# Altium footprint library ST-Link.PcbLib: 11 footprints
Each footprint in its own frame and in the unit in brackets; x right, y up, seen from the top. Pads: shape width x height; smd on the part's side, far side on the other; paste and mask are expansions set on the pad; w line width, h text height; cw(c..) or ccw(c..) is an arc to the next point about the centre after c.
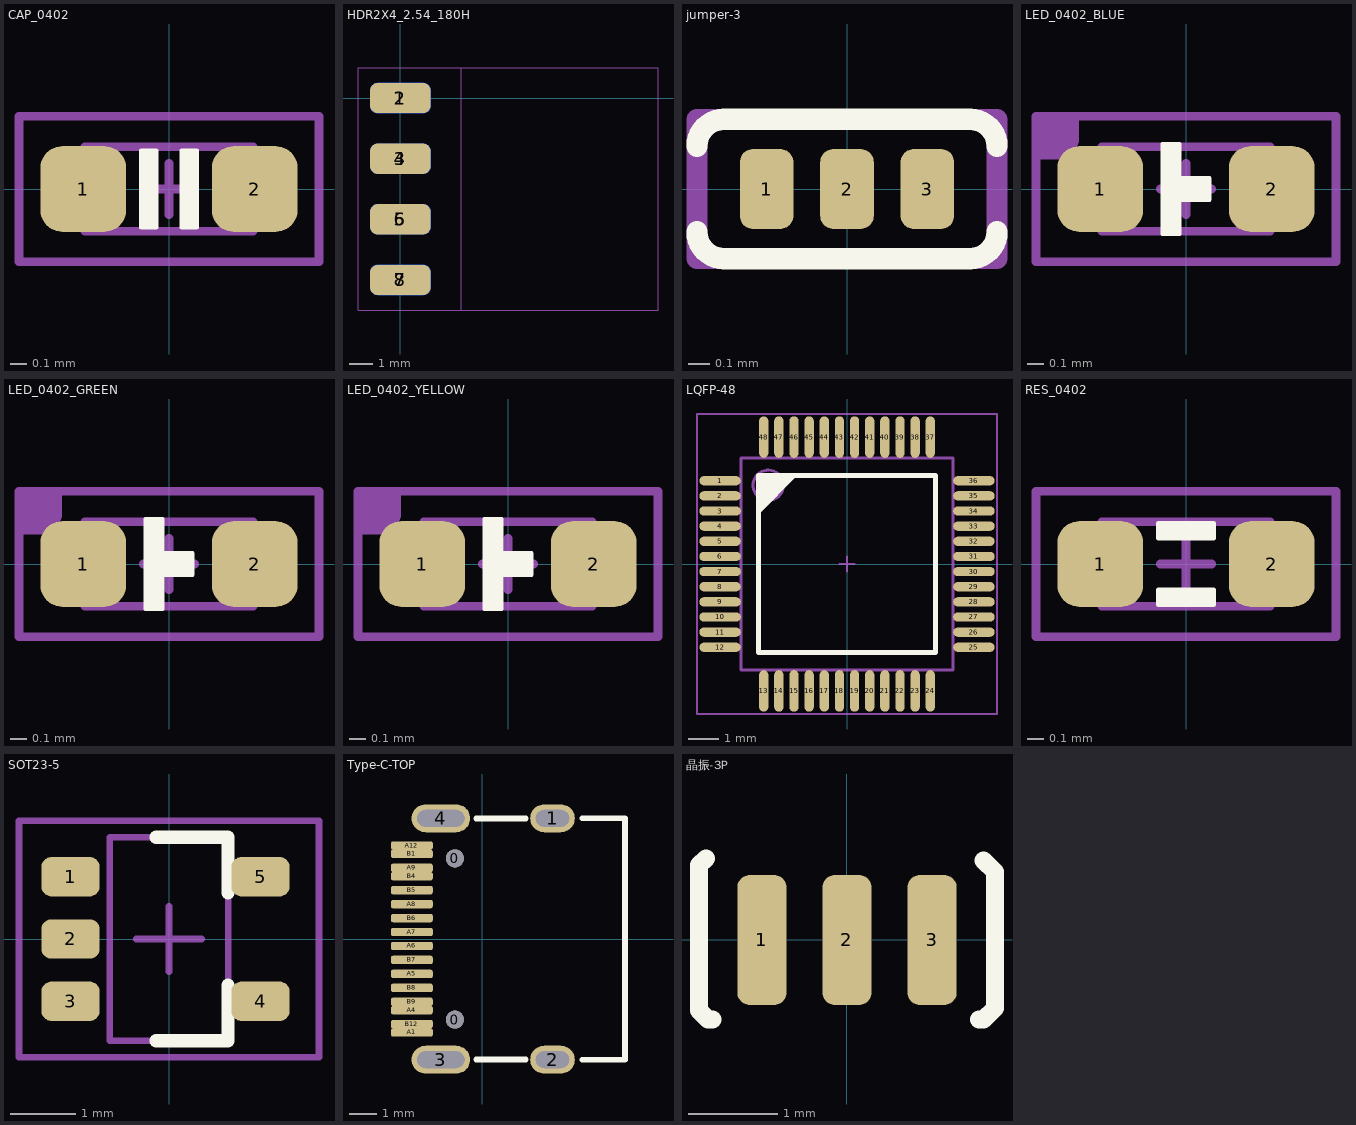
[diagram p0: the footprints below, top view; thin cyan lines are the x and y axes]

## CAP_0402 [mil]
height 21.65
pads (2):
  rrect50% 20x20 smd: 1(-20,0) 2(20,0)
Top Overlay:
  region: 6.5,-9 3,-9 3,9 6.5,9
  region: -6.5,9 -3,9 -3,-9 -6.5,-9
  lines w1: -6.5,-9 -6.5,9 -3,9 -3,-9 -6.5,-9 ; 3,-9 6.5,-9 6.5,9 3,9 3,-9
Mechanical 13:
  lines w2: -6,0 6,0 ; 0,-6 0,6 ; -19.69,-9.84 19.68,-9.84 19.68,9.84 -19.69,9.84 -19.69,-9.84
Mechanical 14:
  lines w2: -35,-17 35,-17 35,17 -35,17 -35,-17
3D body "CAPC1005X05L.step": height 19.68, standoff 0, extent -19.68,-9.84 19.69,9.85

## HDR2X4_2.54_180H [mil]
height 169.29
pads (8):
  rrect50% 100x50 smd: 1(0,0) 3(0,-100) 5(0,-200) 7(0,-300)
  rrect50% 100x50 smd far side: 2(0,0) 4(0,-100) 6(0,-200) 8(0,-300)
Mechanical 13:
  lines w2: -70,-350 -70,50 425,50 425,-350 -70,-350
Mechanical 14:
  lines w2: -70,-350 -70,50 100,50 100,-350 -70,-350
Mechanical 15:
  lines w2: -70,-350 -70,50 100,50 100,-350 -70,-350
3D body "pin_header_awl254-dg-g08d.stp": height 100, standoff -100, extent -38.11,-350 414.65,50

## jumper-3 [mil] "选择焊盘"
pads (3):
  rrect50% 10x15 smd: 1(-15,0) 2(0,0) 3(15,0)
Top Overlay:
  lines w4: -28,-8 ccw(c-23,-8) -23,-13 23,-13 ccw(c23,-8) 28,-8 ; -28,8 cw(c-23,8) -23,13 23,13 cw(c23,8) 28,8
Mechanical 15:
  lines w3.94: -28,-13 28,-13 28,13 -28,13 -28,-13

## LED_0402_BLUE [mil]
height 31.5
pads (2):
  rrect50% 20x20 smd: 1(-20,0) 2(20,0)
Top Overlay:
  region: -5.5,10.5 -1.5,10.5 -1.5,2.5 5.5,2.5 5.5,-2.5 -1.5,-2.5 -1.5,-10.5 -5.5,-10.5
  lines w1: -5.5,-10.5 -1.5,-10.5 -1.5,-2.5 5.5,-2.5 5.5,2.5 -1.5,2.5 -1.5,10.5 -5.5,10.5 -5.5,-10.5
Mechanical 13:
  lines w2: -6,0 6,0 ; 0,-6 0,6 ; -19.69,-9.84 -19.69,9.84 19.68,9.84 19.68,-9.84 -19.69,-9.84
Mechanical 14:
  region: -35,17 -25,17 -25,12 -25,11.01 -25.76,9.17 -27.17,7.76 -29.01,7 -30,7 -35,7
  lines w2: -35,-17 35,-17 35,17 -35,17 -35,-17
  text ".Designator" at -15,-10 h40
3D body "User Library-led_0402LED0402 blue_.STEP": height 17.72, standoff 0, extent -19.88,-9.84 19.88,9.85

## LED_0402_GREEN [mil]
height 31.5
pads (2):
  rrect50% 20x20 smd: 1(-20,0) 2(20,0)
Top Overlay:
  region: -5.5,10.5 -1.5,10.5 -1.5,2.5 5.5,2.5 5.5,-2.5 -1.5,-2.5 -1.5,-10.5 -5.5,-10.5
  lines w1: -5.5,-10.5 -1.5,-10.5 -1.5,-2.5 5.5,-2.5 5.5,2.5 -1.5,2.5 -1.5,10.5 -5.5,10.5 -5.5,-10.5
Mechanical 13:
  lines w2: -6,0 6,0 ; 0,-6 0,6 ; -19.69,-9.84 -19.69,9.84 19.68,9.84 19.68,-9.84 -19.69,-9.84
Mechanical 14:
  region: -35,17 -25,17 -25,12 -25,11.01 -25.76,9.17 -27.17,7.76 -29.01,7 -30,7 -35,7
  lines w2: -35,-17 -35,17 35,17 35,-17 -35,-17
  text ".Designator" at -15,-10 h40
3D body "User Library-led_0402LED0402 green_.STEP": height 17.72, standoff 0, extent -19.88,-9.84 19.88,9.85

## LED_0402_YELLOW [mil]
height 31.5
pads (2):
  rrect50% 20x20 smd: 1(-20,0) 2(20,0)
Top Overlay:
  region: -5.5,10.5 -1.5,10.5 -1.5,2.5 5.5,2.5 5.5,-2.5 -1.5,-2.5 -1.5,-10.5 -5.5,-10.5
  lines w1: -5.5,-10.5 -1.5,-10.5 -1.5,-2.5 5.5,-2.5 5.5,2.5 -1.5,2.5 -1.5,10.5 -5.5,10.5 -5.5,-10.5
Mechanical 13:
  lines w2: -6,0 6,0 ; 0,-6 0,6 ; -19.69,-9.84 -19.69,9.84 19.68,9.84 19.68,-9.84 -19.69,-9.84
Mechanical 14:
  region: -35,17 -25,17 -25,12 -25,11.01 -25.76,9.17 -27.17,7.76 -29.01,7 -30,7 -35,7
  lines w2: -35,-17 35,-17 35,17 -35,17 -35,-17
  text ".Designator" at -15,-10 h40
3D body "User Library-led_0402LED0402 yellow_.STEP": height 17.72, standoff 0, extent -19.88,-9.84 19.89,9.85

## LQFP-48 [mil]
height 62.99
pads (48):
  oval 54x12 smd: 1(-165,108.27) 2(-165,88.58) 3(-165,68.9) 4(-165,49.21) 5(-165,29.53) 6(-165,9.84) 7(-165,-9.84) 8(-165,-29.53) 9(-165,-49.21) 10(-165,-68.9) 11(-165,-88.58) 12(-165,-108.27) 25(165,-108.27) 26(165,-88.58) 27(165,-68.9) 28(165,-49.21) 29(165,-29.53) 30(165,-9.84) 31(165,9.84) 32(165,29.53) 33(165,49.21) 34(165,68.9) 35(165,88.58) 36(165,108.27)
  oval 12x54 smd: 13(-108.27,-165) 14(-88.58,-165) 15(-68.9,-165) 16(-49.21,-165) 17(-29.53,-165) 18(-9.84,-165) 19(9.84,-165) 20(29.53,-165) 21(49.21,-165) 22(68.9,-165) 23(88.58,-165) 24(108.27,-165) 37(108.27,165) 38(88.58,165) 39(68.9,165) 40(49.21,165) 41(29.53,165) 42(9.84,165) 43(-9.84,165) 44(-29.53,165) 45(-49.21,165) 46(-68.9,165) 47(-88.58,165) 48(-108.27,165)
Top Overlay:
  region: -115,115 -65,115 -115,65
  lines w6: -115,-115 115,-115 115,115 -115,115 -115,-115
Mechanical 13:
  circle w3.94: c-102.36,102.36 r19.68
  lines w2: -10,0 10,0 ; 0,-10 0,10
  lines w3.94: -137.8,-137.8 137.8,-137.8 137.8,137.8 -137.8,137.8 -137.8,-137.8
Mechanical 14:
  lines w2: -195,-195 -195,195 195,195 195,-195 -195,-195
3D body "SW3dPS-Quad50M48.STEP": height 61.42, standoff 0, extent -177.16,-177.16 177.17,177.17

## RES_0402 [mil]
height 13.78
pads (2):
  rrect50% 20x20 smd: 1(-20,0) 2(20,0)
Top Overlay:
  region: -6.5,9.5 6.5,9.5 6.5,6 -6.5,6
  region: 6.5,-9.5 -6.5,-9.5 -6.5,-6 6.5,-6
  lines w1: -6.5,-9.5 -6.5,-6 6.5,-6 6.5,-9.5 -6.5,-9.5 ; -6.5,6 6.5,6 6.5,9.5 -6.5,9.5 -6.5,6
Mechanical 13:
  lines w2: -6,0 6,0 ; 0,-6 0,6 ; -19.69,-9.84 19.68,-9.84 19.68,9.84 -19.69,9.84 -19.69,-9.84
Mechanical 14:
  lines w2: -35,-17 -35,17 35,17 35,-17 -35,-17
3D body "RESC1005X03L.step": height 13.78, standoff 0, extent -19.68,-9.84 19.69,9.85

## SOT23-5 [mm] "SOT23, 3-Leads, Body 3.1x3.0mm (max), Pitch 0.95mm, IPC Medium Density"
height 1.2
pads (5):
  rrect50% 0.889x0.6 smd: 1(-1.5,0.95) 2(-1.5,0) 3(-1.5,-0.95) 4(1.396,-0.95) 5(1.396,0.95)
Top Overlay:
  lines w0.2: -0.2,-1.55 0.9,-1.55 0.9,-0.7 ; -0.2,1.55 0.9,1.55 0.9,0.7
Mechanical 13:
  lines w0.1: -0.9,-1.55 0.9,-1.55 0.9,1.55 -0.9,1.55 -0.9,-1.55
Mechanical 15:
  lines w0.1: -0.5,0 0.5,0 ; 0,-0.5 0,0.5 ; -2.286,-1.8 2.286,-1.8 2.286,1.8 -2.286,1.8 -2.286,-1.8
3D body "PCB1.stp": height 1.2, standoff 0, extent -1.476,-1.452 1.324,1.448

## Type-C-TOP [mm]
pads (22):
  round 0.65 hole 0.65: 0(-0.98,-2.89) 0(-0.98,2.89)
  oval 1.6x1 hole 0.6 slot 1.2 at 0 deg: 1(2.52,4.325) 2(2.52,-4.325)
  oval 2.1x1 hole 0.6 slot 1.7 at 0 deg: 3(-1.48,-4.325) 4(-1.48,4.325)
  rrect50% 1.5x0.3 smd: A1(-2.52,-3.35) A4(-2.52,-2.55) A5(-2.52,-1.25) A6(-2.52,-0.25) A7(-2.52,0.25) A8(-2.52,1.25) A9(-2.52,2.55) A12(-2.52,3.35) B1(-2.52,3.05) B4(-2.52,2.25) B5(-2.52,1.75) B6(-2.52,0.75) B7(-2.52,-0.75) B8(-2.52,-1.75) B9(-2.52,-2.25) B12(-2.52,-3.05)
Top Overlay:
  lines w0.203: -0.218,-4.318 1.56,-4.318 ; -0.218,4.318 1.56,4.318 ; 3.592,-4.325 5.12,-4.325 5.12,4.325 3.592,4.325
3D body "1.step": height 3.26, standoff -1, extent -2.568,-4.475 5.182,4.475

## 晶振-3P [mm] "贴片晶振"
pads (3):
  rrect50% 0.55x1.45 smd: 1(-0.95,0) 2(0,0) 3(0.95,0)
Top Overlay:
  lines w0.2: -1.576,0.911 -1.651,0.836 -1.651,-0.789 -1.551,-0.889 -1.501,-0.889 ; 1.474,-0.889 1.524,-0.889 1.651,-0.762 1.651,0.762 1.524,0.889
3D body "123123123.stp": height 0.7, standoff 0, extent -1.6,-0.65 1.6,0.65
3D body: height 0, standoff 0, extent 1.474,-0.89 1.652,0.89
3D body: height 0, standoff 0, extent 1.474,-0.89 1.652,0.89